# Altium footprint library Cap5x10.PcbLib: 1 footprints
Each footprint in its own frame and in the unit in brackets; x right, y up, seen from the top. Pads: shape width x height; smd on the part's side, far side on the other; paste and mask are expansions set on the pad; w line width, h text height; cw(c..) or ccw(c..) is an arc to the next point about the centre after c.
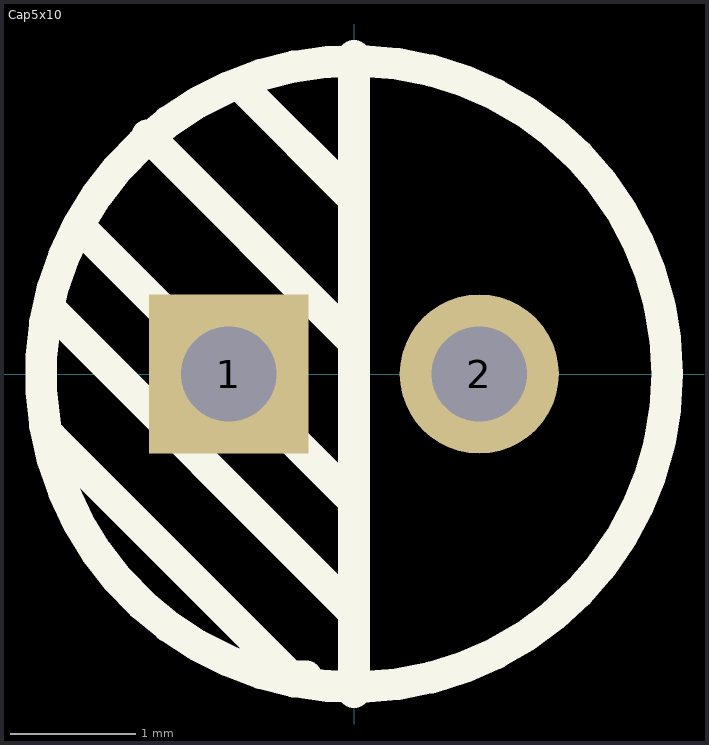
[diagram p0: the footprint, top view; thin cyan lines are the x and y axes]

## Cap5x10 [mil]
pads (2):
  rect 50x50 hole 30: 1(-39.37,0)
  round 50 hole 30: 2(39.37,0)
Top Overlay:
  circle w10: c0,0 r98.43
  lines w10: -95,-20 -20,-95 -15,-95 ; -95,20 0,-75 0,-80 ; -85,45 0,-40 ; -65,75 0,10 0,0 ; -35,90 0,55 ; 0,-100 0,100